# Altium footprint library LITEON_MOC306X.PcbLib: 1 footprints
Each footprint in its own frame and in the unit in brackets; x right, y up, seen from the top. Pads: shape width x height; smd on the part's side, far side on the other; paste and mask are expansions set on the pad; w line width, h text height; cw(c..) or ccw(c..) is an arc to the next point about the centre after c.
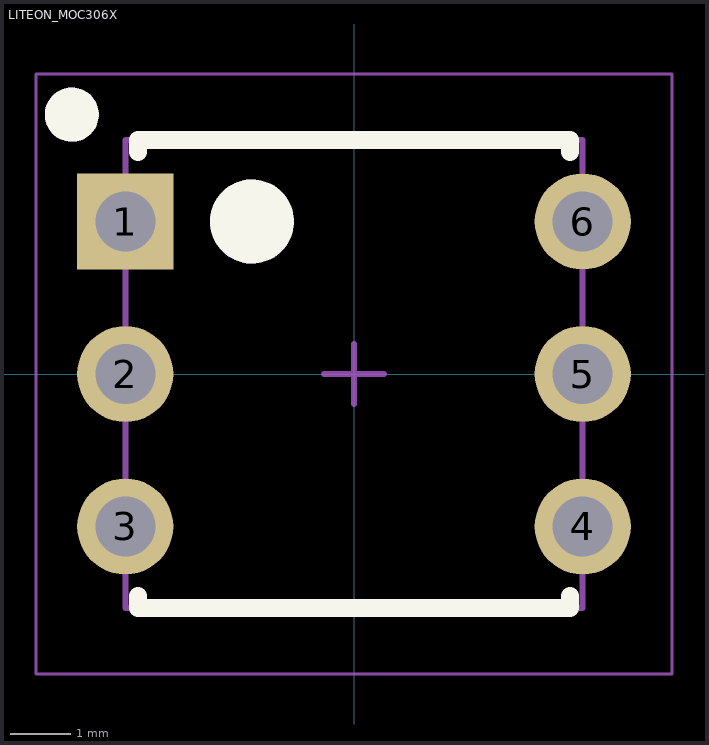
[diagram p0: the footprint, top view; thin cyan lines are the x and y axes]

## LITEON_MOC306X [mm] "LITEON_MOC306X"
height 4.5
pads (6):
  rect 1.6x1.6 hole 1 mask+0.05: 1(-3.81,2.54)
  round 1.6 hole 1 mask+0.05: 2(-3.81,0) 3(-3.81,-2.54) 4(3.81,-2.54) 5(3.81,0) 6(3.81,2.54)
Top Overlay:
  circle w0.5: c-4.7,4.32 r0.2
  circle w0.8: c-1.7,2.54 r0.3
  lines w0.3: -3.595,-3.7 -3.595,-3.9 3.595,-3.9 3.595,-3.7 ; -3.595,3.7 -3.595,3.9 3.595,3.9 3.595,3.7
Mechanical 13:
  circle w0.5: c-4.7,4.32 r0.2
  circle w0.8: c-1.7,2.54 r0.3
  lines w0.1: -3.81,-3.9 -3.81,3.9 3.81,3.9 3.81,-3.9 -3.81,-3.9
Mechanical 15:
  lines w0.05: -5.3,-5 5.3,-5 5.3,5 -5.3,5 -5.3,-5
  lines w0.1: -0.5,0 0.5,0 ; 0,-0.5 0,0.5
3D body "LITEON_MOC306X.step": height 4.5, standoff -3.3, extent -3.94,-3.65 3.94,3.65